# Altium schematic symbol library MSS1210-103MEB.SchLib: 1 symbol
Pins are listed as number, name and electrical type; pins without a type are passive.

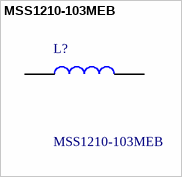
[diagram p0: symbol MSS1210-103MEB]

## MSS1210-103MEB
designator L?
Fixed Inductors MSS1210 AEC-Q200 10 uH 20 % 10 A; Manufacturer_Name: COILCRAFT; Geometry.Height: 10.2mm; Mouser Part Number: 994-MSS1210-103MEB; Mouser Price/Stock: https://www.mouser.co.uk/ProductDetail/Coilcraft/MSS1210-103MEB?qs=VJjuEbE9QBNwjoERzwkOMg%3D%3D; Manufacturer_Part_Number: MSS1210-103MEB; Datasheet Link: https://g.componentsearchengine.com/Datasheets/34/MSS1210-103MEB.pdf
footprint INDPM120120X1020N
pins: 1, 2